# Altium footprint library molex-0545.PcbLib: 2 footprints
Each footprint in its own frame and in the unit in brackets; x right, y up, seen from the top. Pads: shape width x height; smd on the part's side, far side on the other; paste and mask are expansions set on the pad; w line width, h text height; cw(c..) or ccw(c..) is an arc to the next point about the centre after c.
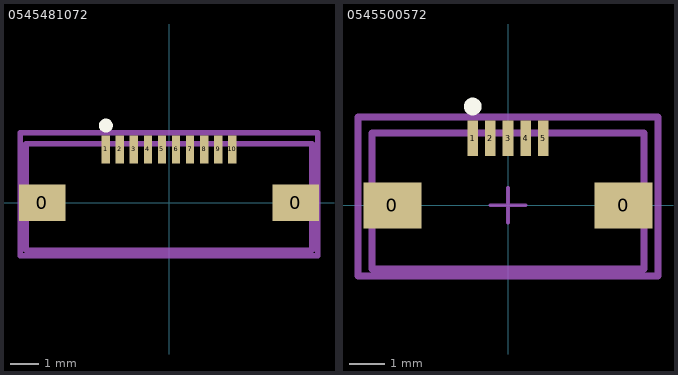
[diagram p0: the footprints below, top view; thin cyan lines are the x and y axes]

## 0545481072 [mm] "CONN FFC BOTTOM 10POS 0.5MM R/A"
pads (12):
  rect 1.65x1.3 smd paste-2539.97: 0(-4.525,0) 0(4.525,0)
  rect 0.3x1 smd paste-2539.97: 1(-2.25,1.9) 2(-1.75,1.9) 3(-1.25,1.9) 4(-0.75,1.9) 5(-0.25,1.9) 6(0.25,1.9) 7(0.75,1.9) 8(1.25,1.9) 9(1.75,1.9) 10(2.25,1.9)
Top Overlay:
  circle w0.25: c-2.25,2.75 r0.125
Top 3D Body:
  lines w0.2: -5.1,-1.7 -5.1,2.1 5.1,2.1 5.1,-1.7 -5.1,-1.7
Top Courtyard:
  lines w0.2: -5.3,-1.9 -5.3,2.5 5.3,2.5 5.3,-1.9 -5.3,-1.9
3D body "545481072.stp": height 1.22, standoff -0.01, extent -5.1,-1.75 5.1,2.1

## 0545500572 [mm] "CONN FFC FPC TOP 5POS 0.5MM R/A"
pads (7):
  rect 1.65x1.3 smd paste-2539.97: 0(-3.275,0) 0(3.275,0)
  rect 0.3x1 smd paste-2539.97: 1(-1,1.9) 2(-0.5,1.9) 3(0,1.9) 4(0.5,1.9) 5(1,1.9)
Top Overlay:
  circle w0.25: c-1,2.8 r0.125
Top 3D Body:
  lines w0.2: -3.85,-1.8 -3.85,2.05 3.85,2.05 3.85,-1.8 -3.85,-1.8
Top Courtyard:
  lines w0.2: -4.25,-2 -4.25,2.5 4.25,2.5 4.25,-2 -4.25,-2
Top Component Center:
  lines w0.1: -0.5,0 0.5,0 ; 0,-0.5 0,0.5
3D body "545500572.stp": height 1.22, standoff -0.01, extent -3.85,-1.8 3.85,2.05